# EAGLE library part AMIGA_CIA (library Bootselector)
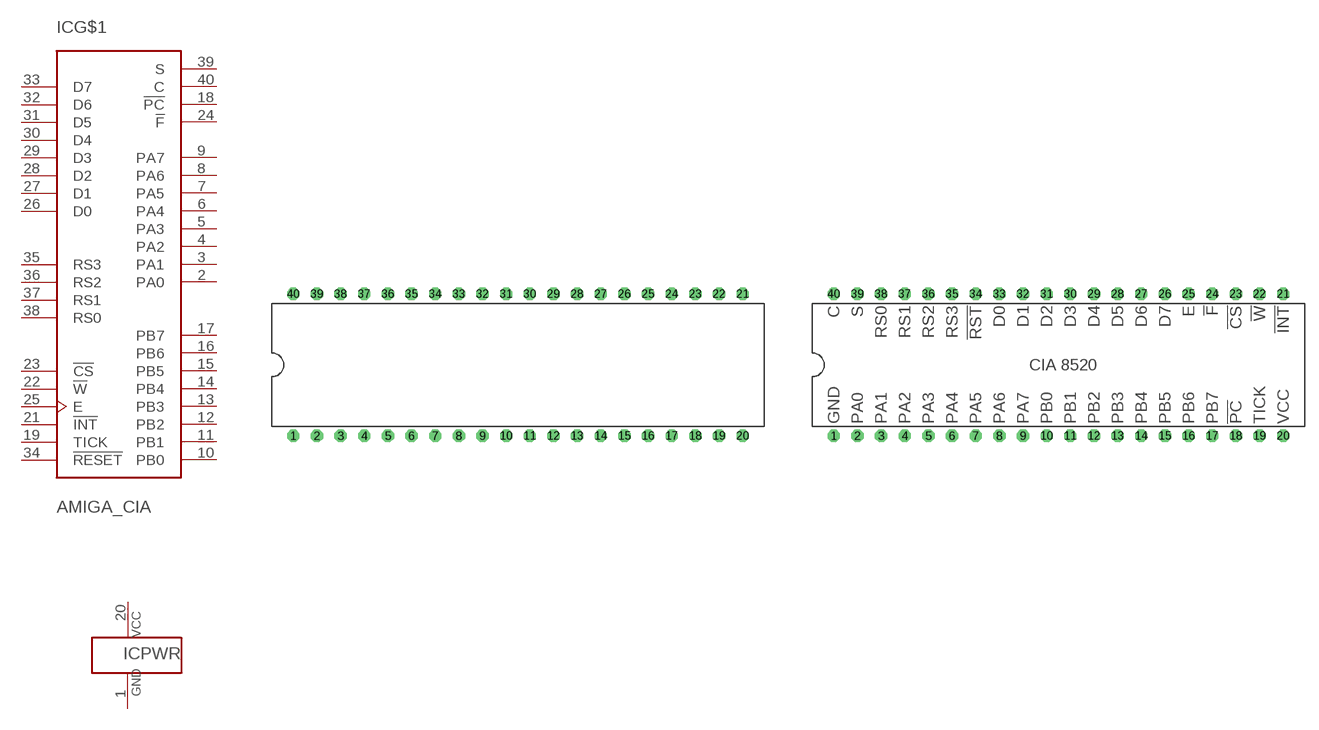
[diagram p0: symbol with the pads of AMIGA_DIP40-6; footprints AMIGA_DIP40-6, AMIGA_DIL40-CIA]

Designator prefix IC; gates G$1=AMIGA_CIA PWR=AMIGA_1VCC-1GND

## AMIGA_CIA_DIP  [AMIGA_DIP40-6]
1  PWR:GND1  pwr
2  G$1:PA0
3  G$1:PA1
4  G$1:PA2
5  G$1:PA3
6  G$1:PA4
7  G$1:PA5
8  G$1:PA6
9  G$1:PA7
10  G$1:PB0
11  G$1:PB1
12  G$1:PB2
13  G$1:PB3
14  G$1:PB4
15  G$1:PB5
16  G$1:PB6
17  G$1:PB7
18  G$1:!PC
19  G$1:TICK  in
20  PWR:VCC1  pwr
21  G$1:!INT  out
22  G$1:!W  in
23  G$1:!CS  in
24  G$1:!F
25  G$1:E  in
26  G$1:D0
27  G$1:D1
28  G$1:D2
29  G$1:D3
30  G$1:D4
31  G$1:D5
32  G$1:D6
33  G$1:D7
34  G$1:!RESET  in
35  G$1:RS3  in
36  G$1:RS2  in
37  G$1:RS1  in
38  G$1:RS0  in
39  G$1:S
40  G$1:C

## AMIGA_CIA_DIP_LABEL  [AMIGA_DIL40-CIA]
Pads as for AMIGA_DIP40-6

## AMIGA_CIA_PLCC44_SMD  [AMIGA_PLCC44_S]
1  PWR:GND1  pwr
2  G$1:PA0
3  G$1:PA1
4  G$1:PA2
7  G$1:PA3
8  G$1:PA4
9  G$1:PA5
10  G$1:PA6
11  G$1:PA7
12  G$1:PB0
13  G$1:PB1
14  G$1:PB2
15  G$1:PB3
16  G$1:PB4
17  G$1:PB5
18  G$1:PB6
19  G$1:PB7
20  G$1:!PC
21  G$1:TICK  in
22  PWR:VCC1  pwr
23  G$1:!INT  out
24  G$1:!W  in
25  G$1:!CS  in
26  G$1:!F
27  G$1:E  in
29  G$1:D7
30  G$1:D6
31  G$1:D5
32  G$1:D4
33  G$1:D3
34  G$1:D2
35  G$1:D1
36  G$1:D0
37  G$1:!RESET  in
38  G$1:RS3  in
39  G$1:RS2  in
41  G$1:RS1  in
42  G$1:RS0  in
43  G$1:S
44  G$1:C

## AMIGA_CIA_PLCC44_THT  [AMIGA_PLCC44_T]
Pads as for AMIGA_PLCC44_S

## Footprint AMIGA_DIP40-6 (pad centres in mm)
Commodore custom chips
drill 0.813 octagon: 1 -24.13,-7.62; 2 -21.59,-7.62; 3 -19.05,-7.62; 4 -16.51,-7.62; 5 -13.97,-7.62; 6 -11.43,-7.62; 7 -8.89,-7.62; 8 -6.35,-7.62; 9 -3.81,-7.62; 10 -1.27,-7.62; 11 1.27,-7.62; 12 3.81,-7.62; 13 6.35,-7.62; 14 8.89,-7.62; 15 11.43,-7.62; 16 13.97,-7.62; 17 16.51,-7.62; 18 19.05,-7.62; 19 21.59,-7.62; 20 24.13,-7.62; 21 24.13,7.62; 22 21.59,7.62; 23 19.05,7.62; 24 16.51,7.62; 25 13.97,7.62; 26 11.43,7.62; 27 8.89,7.62; 28 6.35,7.62; 29 3.81,7.62; 30 1.27,7.62; 31 -1.27,7.62; 32 -3.81,7.62; 33 -6.35,7.62; 34 -8.89,7.62; 35 -11.43,7.62; 36 -13.97,7.62; 37 -16.51,7.62; 38 -19.05,7.62; 39 -21.59,7.62; 40 -24.13,7.62

## Footprint AMIGA_DIL40-CIA (pad centres in mm)
drill 0.813 octagon: 1 -22.86,-7.62; 2 -20.32,-7.62; 3 -17.78,-7.62; 4 -15.24,-7.62; 5 -12.7,-7.62; 6 -10.16,-7.62; 7 -7.62,-7.62; 8 -5.08,-7.62; 9 -2.54,-7.62; 10 0,-7.62; 11 2.54,-7.62; 12 5.08,-7.62; 13 7.62,-7.62; 14 10.16,-7.62; 15 12.7,-7.62; 16 15.24,-7.62; 17 17.78,-7.62; 18 20.32,-7.62; 19 22.86,-7.62; 20 25.4,-7.62; 21 25.4,7.62; 22 22.86,7.62; 23 20.32,7.62; 24 17.78,7.62; 25 15.24,7.62; 26 12.7,7.62; 27 10.16,7.62; 28 7.62,7.62; 29 5.08,7.62; 30 2.54,7.62; 31 0,7.62; 32 -2.54,7.62; 33 -5.08,7.62; 34 -7.62,7.62; 35 -10.16,7.62; 36 -12.7,7.62; 37 -15.24,7.62; 38 -17.78,7.62; 39 -20.32,7.62; 40 -22.86,7.62

## Footprint AMIGA_PLCC44_S (pad centres in mm)
PLASTIC LEADED CHIP CARRIER square
smd 0.6 x 2.2: 1 0,8.1; 2 -1.27,8.1; 3 -2.54,8.1; 4 -3.81,8.1; 5 -5.08,8.1; 6 -6.35,8.1; 18 -6.35,-8.1; 19 -5.08,-8.1; 20 -3.81,-8.1; 21 -2.54,-8.1; 22 -1.27,-8.1; 23 0,-8.1; 24 1.27,-8.1; 25 2.54,-8.1; 26 3.81,-8.1; 27 5.08,-8.1; 28 6.35,-8.1; 40 6.35,8.1; 41 5.08,8.1; 42 3.81,8.1; 43 2.54,8.1; 44 1.27,8.1
smd 2.2 x 0.6: 7 -8.1,6.35; 8 -8.1,5.08; 9 -8.1,3.81; 10 -8.1,2.54; 11 -8.1,1.27; 12 -8.1,0; 13 -8.1,-1.27; 14 -8.1,-2.54; 15 -8.1,-3.81; 16 -8.1,-5.08; 17 -8.1,-6.35; 29 8.1,-6.35; 30 8.1,-5.08; 31 8.1,-3.81; 32 8.1,-2.54; 33 8.1,-1.27; 34 8.1,0; 35 8.1,1.27; 36 8.1,2.54; 37 8.1,3.81; 38 8.1,5.08; 39 8.1,6.35

## Footprint AMIGA_PLCC44_T (pad centres in mm)
drill 0.813: 1 1.27,6.35
drill 0.813 octagon: 2 -1.27,8.89; 3 -1.27,6.35; 4 -3.81,8.89; 5 -3.81,6.35; 6 -6.35,8.89; 7 -8.89,6.35; 8 -6.35,6.35; 9 -8.89,3.81; 10 -6.35,3.81; 11 -8.89,1.27; 12 -6.35,1.27; 13 -8.89,-1.27; 14 -6.35,-1.27; 15 -8.89,-3.81; 16 -6.35,-3.81; 17 -8.89,-6.35; 18 -6.35,-8.89; 19 -6.35,-6.35; 20 -3.81,-8.89; 21 -3.81,-6.35; 22 -1.27,-8.89; 23 -1.27,-6.35; 24 1.27,-8.89; 25 1.27,-6.35; 26 3.81,-8.89; 27 3.81,-6.35; 28 6.35,-8.89; 29 8.89,-6.35; 30 6.35,-6.35; 31 8.89,-3.81; 32 6.35,-3.81; 33 8.89,-1.27; 34 6.35,-1.27; 35 8.89,1.27; 36 6.35,1.27; 37 8.89,3.81; 38 6.35,3.81; 39 8.89,6.35; 40 6.35,8.89; 41 6.35,6.35; 42 3.81,8.89; 43 3.81,6.35; 44 1.27,8.89